# Altium footprint library DF11-12DP-2DSA.PcbLib: 1 footprints
Each footprint in its own frame and in the unit in brackets; x right, y up, seen from the top. Pads: shape width x height; smd on the part's side, far side on the other; paste and mask are expansions set on the pad; w line width, h text height; cw(c..) or ccw(c..) is an arc to the next point about the centre after c.
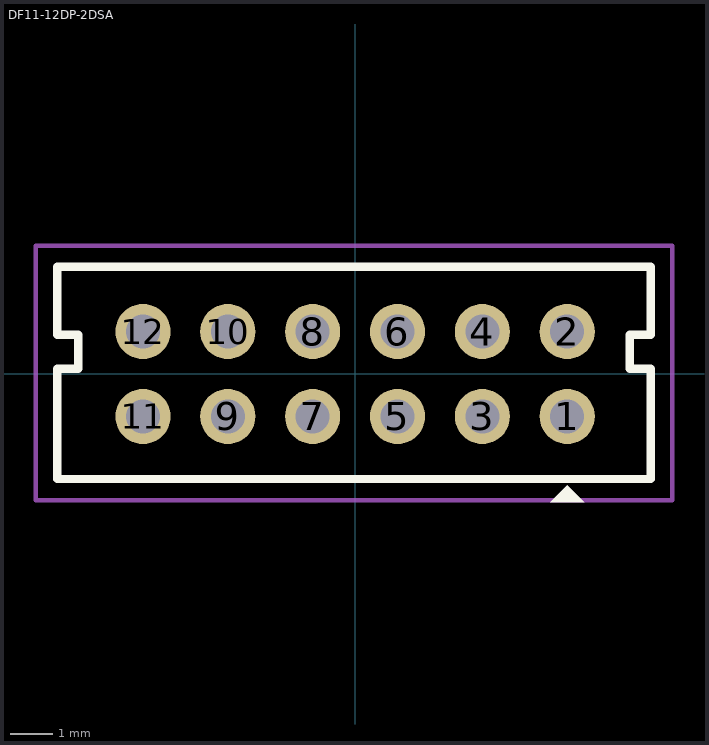
[diagram p0: the footprint, top view; thin cyan lines are the x and y axes]

## DF11-12DP-2DSA [mm]
pads (12):
  round 1.3 hole 0.8: 1(5,-1) 2(5,1) 3(3,-1) 4(3,1) 5(1,-1) 6(1,1) 7(-1,-1) 8(-1,1) 9(-3,-1) 10(-3,1) 11(-5,-1) 12(-5,1)
Top Overlay:
  region: 5.4,-3.025 4.6,-3.025 5,-2.625
  lines w0.2: -7.025,-2.475 6.975,-2.475 6.975,0.125 6.475,0.125 6.475,0.925 6.975,0.925 6.975,2.525 -7.025,2.525 -7.025,0.925 -6.525,0.925 -6.525,0.125 -7.025,0.125 -7.025,-2.475
Top Courtyard:
  lines w0.1: -7.525,-2.475 -7.525,-2.975 ; -7.025,-2.975 -7.525,-2.975 ; 6.975,3.025 7.475,3.025 ; 7.475,2.525 7.475,3.025 ; -7.525,-2.975 7.475,-2.975 7.475,3.025 ; -7.525,-2.975 -7.525,3.025 7.475,3.025
3D body "DF11-12DP-2DSA.stp": height 6.7, standoff -2.9, extent -7.025,-2.475 6.975,2.525